# Altium footprint library 292132-5.PcbLib: 1 footprints
Each footprint in its own frame and in the unit in brackets; x right, y up, seen from the top. Pads: shape width x height; smd on the part's side, far side on the other; paste and mask are expansions set on the pad; w line width, h text height; cw(c..) or ccw(c..) is an arc to the next point about the centre after c.
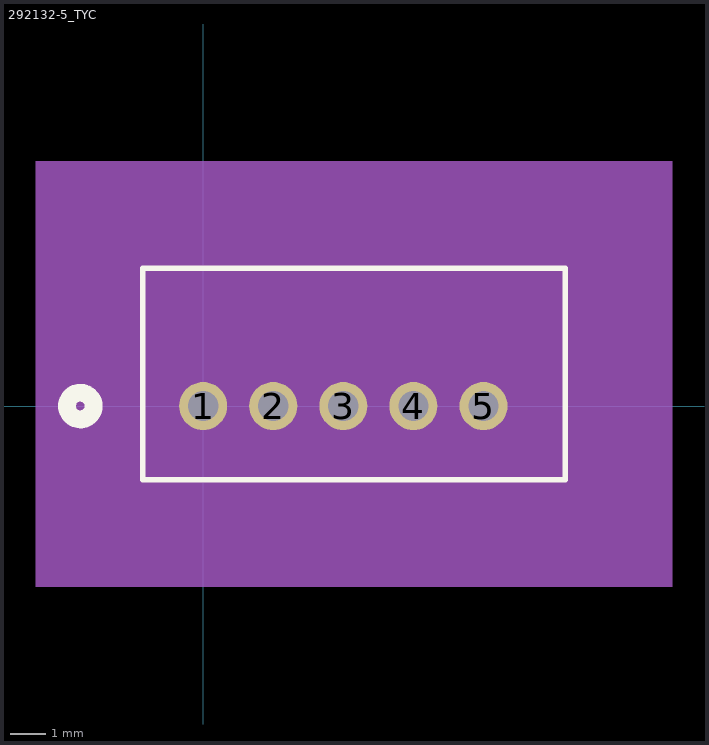
[diagram p0: the footprint, top view; thin cyan lines are the x and y axes]

## 292132-5_TYC [mil]
pads (5):
  round 54 hole 34 mask+0: 1(0,0) 2(78.74,0) 3(157.48,0) 4(236.22,0) 5(314.96,0)
Top Overlay:
  circle w20: c-138.02,0 r15
  lines w6: -68.02,-83 406.98,-83 406.98,155 -68.02,155 -68.02,-83
Bottom Overlay:
  circle w20: c-138.02,0 r15
Mechanical 5:
  region: -188.02,275 526.98,275 526.98,-203 -188.02,-203
Mechanical 13:
  circle w20: c0,-75 r15
  lines w1: -63.02,-78 401.98,-78 401.98,150 -63.02,150 -63.02,-78
Mechanical 15:
  region: 411.98,160 -73.02,160 -73.02,-88 411.98,-88
  lines w6: -73.02,-88 -73.02,160 411.98,160 411.98,-88 -73.02,-88
3D body: height 10, standoff 0, extent 0,0 10,10